# Altium schematic symbol library LM74700QDBVRQ1.SchLib: 1 symbol
Pins are listed as number, name and electrical type; pins without a type are passive.

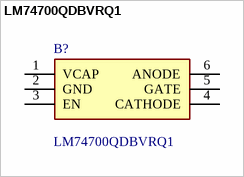
[diagram p0: symbol LM74700QDBVRQ1]

## LM74700QDBVRQ1
designator B?
Low Iq, ideal diode controller; Manufacturer_Name: Texas Instruments; Geometry.Height: 1.45mm; Mouser Part Number: 595-LM74700QDBVRQ1; Mouser Price/Stock: https://www.mouser.co.uk/ProductDetail/Texas-Instruments/LM74700QDBVRQ1?qs=j%252B1pi9TdxUYjAZhGV8eSkQ%3D%3D; Manufacturer_Part_Number: LM74700QDBVRQ1; Datasheet Link: http://www.ti.com/lit/gpn/LM74700-Q1
footprint SOT95P280X145-6N
pins: 1 VCAP, 2 GND, 3 EN, 4 CATHODE, 5 GATE, 6 ANODE